# EAGLE library part WIRELESS-NRF24L01 (library Alex's Library)
2.4 GHz Wireless Module based on NRF24L01 chip
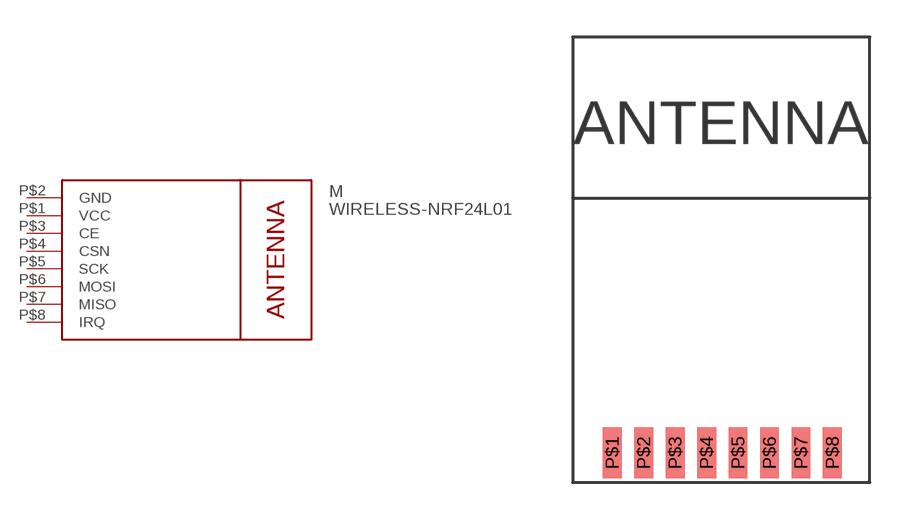
[diagram p0: symbol with the pads of WIRELESS-NRF24L01; footprint WIRELESS-NRF24L01]

Designator prefix M

## WIRELESS-NRF24L01  [WIRELESS-NRF24L01]
P$1  VCC  pwr
P$2  GND  pwr
P$3  CE
P$4  CSN
P$5  SCK
P$6  MOSI
P$7  MISO
P$8  IRQ

## Footprint WIRELESS-NRF24L01 (pad centres in mm)
2.4 GHz Wireless Module based on NRF24L01 chip
smd 0.76 x 2.05: P$1 -4.4,-7.8; P$2 -3.13,-7.8; P$3 -1.86,-7.8; P$4 -0.59,-7.8; P$5 0.68,-7.8; P$6 1.95,-7.8; P$7 3.22,-7.8; P$8 4.49,-7.8